# Altium footprint library RES_DEMO.PcbLib: 1 footprints
Each footprint in its own frame and in the unit in brackets; x right, y up, seen from the top. Pads: shape width x height; smd on the part's side, far side on the other; paste and mask are expansions set on the pad; w line width, h text height; cw(c..) or ccw(c..) is an arc to the next point about the centre after c.
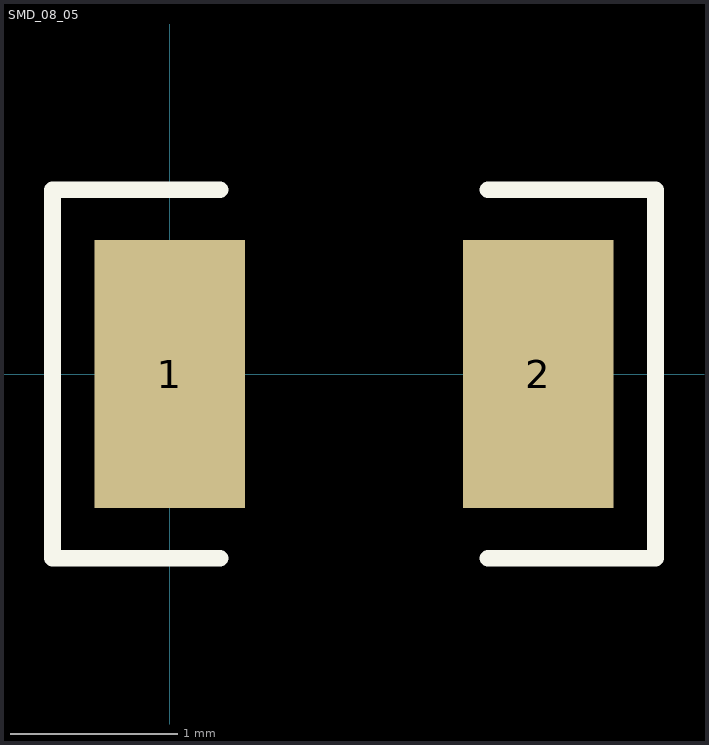
[diagram p0: the footprint, top view; thin cyan lines are the x and y axes]

## SMD_08_05 [mm]
pads (2):
  rect 0.9x1.6 smd: 1(0,0) 2(2.2,0)
Top Overlay:
  lines w0.1: 0.3,-1.1 -0.7,-1.1 -0.7,1.1 0.3,1.1 ; 1.9,-1.1 2.9,-1.1 2.9,1.1 1.9,1.1